# Altium footprint library ELE3PRO_2012.PcbLib: 30 footprints (part 1 of 2)
Each footprint in its own frame and in the unit in brackets; x right, y up, seen from the top. Pads: shape width x height; smd on the part's side, far side on the other; paste and mask are expansions set on the pad; w line width, h text height; cw(c..) or ccw(c..) is an arc to the next point about the centre after c.
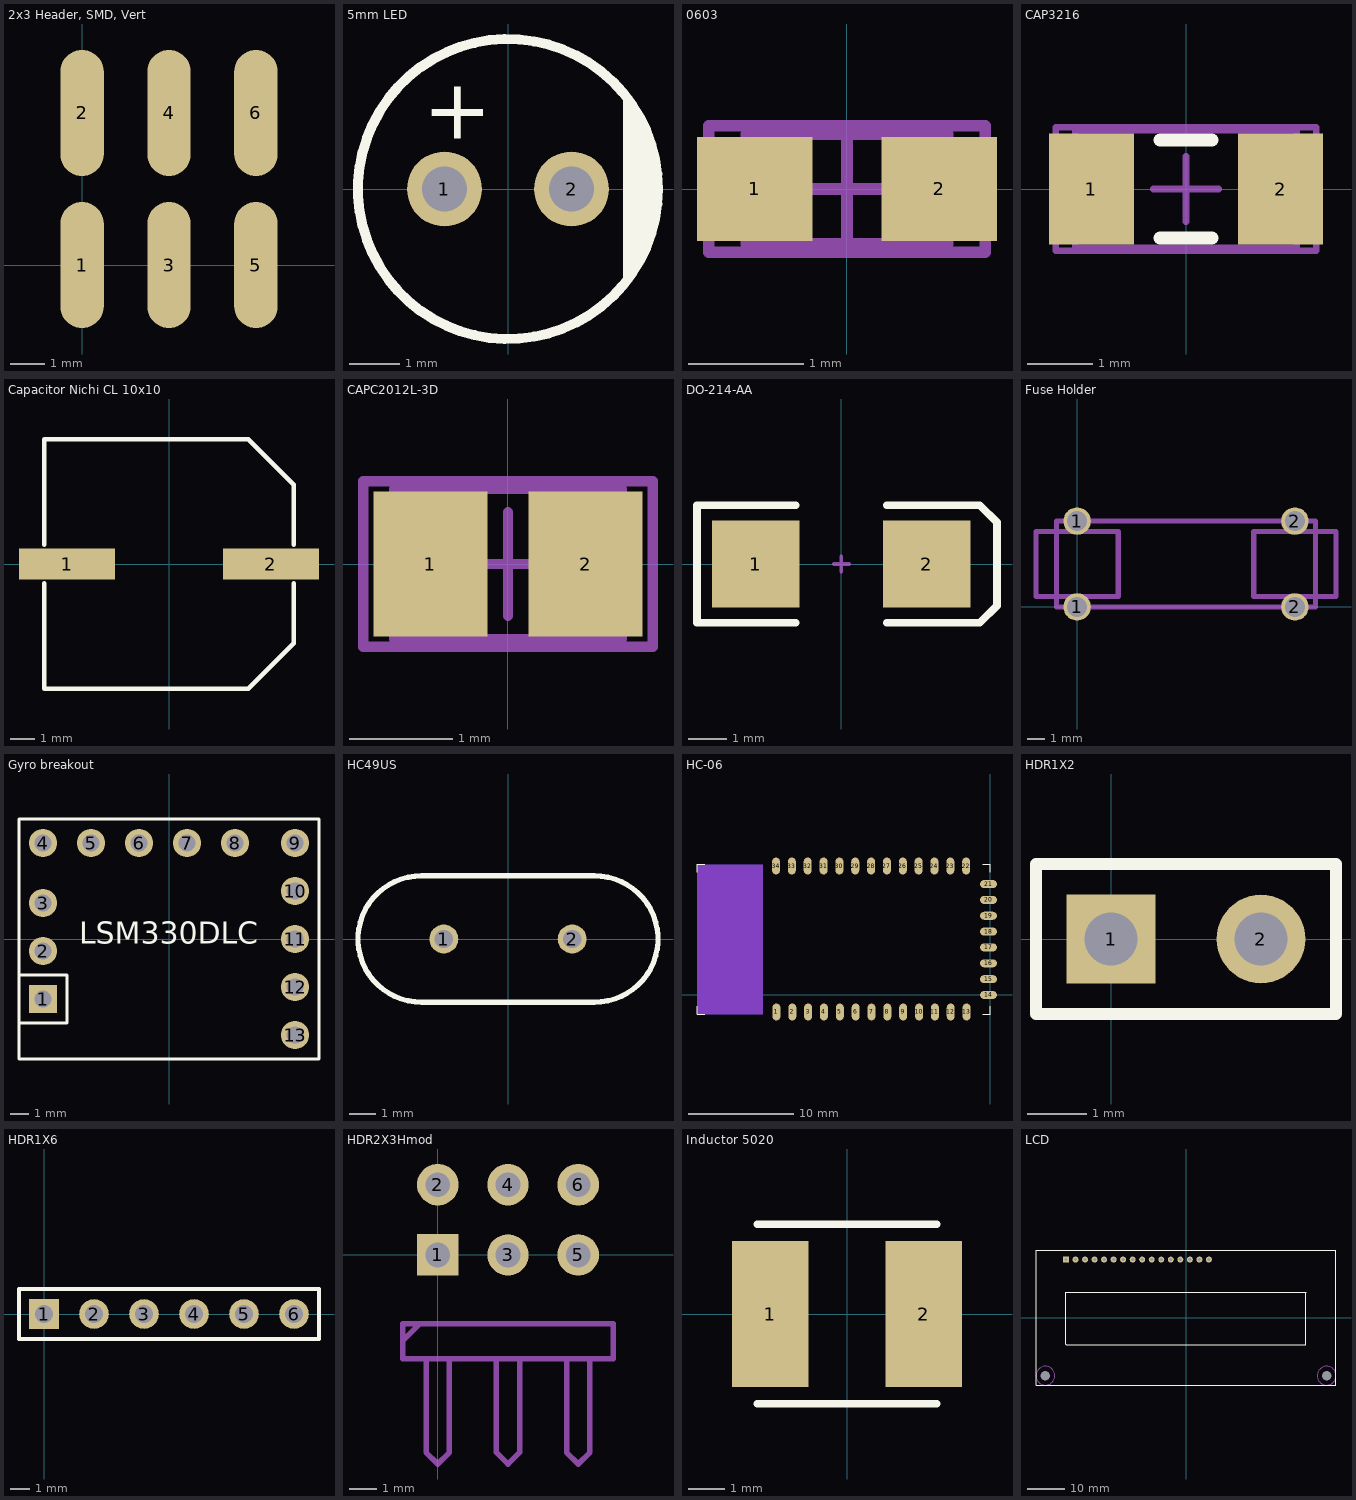
[diagram p0: the footprints below, top view; thin cyan lines are the x and y axes]

## 2x3 Header, SMD, Vert [mm]
pads (6):
  oval 1.27x3.68 smd mask+0.06: 1(0,0) 2(0,4.44) 3(2.54,0) 4(2.54,4.44) 5(5.08,0) 6(5.08,4.44)

## 5mm LED [mm]
pads (2):
  round 1.5 hole 0.9: 1(-1.27,0) 2(1.27,0)
Top Overlay:
  circle w0.2: c0,0 r3
  region: 2.4,1.8 2.4,-1.8 2.7,-1.2 2.9,-0.5 3,0.4 2.7,1.1
  lines w0.2: 2.4,-1.8 2.4,1.8
  text "+" at -1.7,1 h1.2

## 0603 [mm]
pads (2):
  rect 1x0.9 smd: 1(-0.8,0) 2(0.8,0)
Mechanical 13:
  lines w0.1: -0.875,-0.475 -0.875,0.475 0.875,0.475 0.875,-0.475 -0.875,-0.475
Mechanical 15:
  lines w0.1: -0.475,0 0.475,0 ; 0,-0.475 0,0.475 ; -1.2,-0.55 -1.2,0.55 1.2,0.55 1.2,-0.55 -1.2,-0.55
3D body: height 1.3, standoff 0, extent -0.875,-0.475 0.875,0.475

## CAP3216 [mm] "Chip Capacitor, Body 3.2x1.6mm, IPC High Density"
height 1.3
pads (2):
  rect 1.3x1.7 smd: 1(-1.45,0) 2(1.45,0)
Top Overlay:
  lines w0.2: -0.4,-0.75 0.4,-0.75 ; -0.4,0.75 0.4,0.75
Mechanical 13:
  lines w0.1: -1.7,-0.9 1.7,-0.9 1.7,0.9 -1.7,0.9 -1.7,-0.9
Mechanical 15:
  lines w0.1: -0.5,0 0.5,0 ; 0,-0.5 0,0.5 ; -2,-0.95 2,-0.95 2,0.95 -2,0.95 -2,-0.95
3D body: height 1.3, standoff 0, extent -1.7,-0.9 1.7,0.9

## Capacitor Nichi CL 10x10 [mm]
pads (2):
  rect 4x1.3 smd: 1(-4.25,0) 2(4.25,0)
Top Overlay:
  lines w0.2: -5.2,-0.8 -5.2,-5.2 3.309,-5.2 5.2,-3.309 5.2,-0.8 ; -5.2,0.8 -5.2,5.2 3.309,5.2 5.2,3.309 5.2,0.8

## CAPC2012L-3D [mm] "Chip Capacitor, Body 2.0x1.3mm, IPC High Density"
height 1.4
pads (2):
  rect 1.1x1.4 smd: 1(-0.75,0) 2(0.75,0)
Mechanical 13:
  lines w0.1: -1.1,-0.725 1.1,-0.725 1.1,0.725 -1.1,0.725 -1.1,-0.725
Mechanical 15:
  lines w0.1: -0.5,0 0.5,0 ; 0,-0.5 0,0.5 ; -1.4,-0.8 1.4,-0.8 1.4,0.8 -1.4,0.8 -1.4,-0.8
3D body: height 0.78, standoff 0, extent -1,-0.625 1,0.625

## DO-214-AA [mm] "DO-214-AA/SMB; 2 C-Bend Leads; Body 5.3 x 3.6 mm, inc. leads (LxW)"
height 2.54
pads (2):
  rect 2.3x2.3 smd: 1(-2.25,0) 2(2.25,0)
Top Overlay:
  lines w0.2: -1.2,-1.55 -3.8,-1.55 -3.8,1.55 -1.2,1.55 ; 1.2,-1.55 3.65,-1.55 4.1,-1.1 4.1,1.1 3.65,1.55 1.2,1.55
Mechanical 1:
  lines w0.1: -0.2,0 0.2,0 ; 0,-0.2 0,0.2
3D body: height 2.3, standoff 0, extent -2.7,-1.8 2.7,1.8

## Fuse Holder [mm]
pads (4):
  round 1.6 hole 1.17 mask+0.06: 1(0,0) 1(0,5) 2(12.7,0) 2(12.7,5)
Mechanical 1:
  lines w0.3: -2.4,0.6 -2.4,4.4 2.4,4.4 2.4,0.6 -2.4,0.6 ; 10.3,0.6 15.1,0.6 15.1,4.4 10.3,4.4 10.3,0.6
  text "Holder" at 3.3,0.9 h1.2
Mechanical 2:
  lines w0.3: -1.2,0 -1.2,5 13.9,5 13.9,0 -1.2,0
  text "Fuse" at 4.1,2.8 h1.2
3D body: height 7.4, standoff -2.95, extent 10.325,0 15.125,5.1
3D body: height 7.4, standoff -2.95, extent -2.275,0 2.525,5.1

## Gyro breakout [mm]
pads (13):
  rect 1.5x1.5 hole 0.9 mask+0.06: 1(-6.667,-3.175)
  round 1.5 hole 0.9 mask+0.06: 2(-6.667,-0.635) 3(-6.667,1.905) 4(-6.667,5.08) 5(-4.127,5.08) 6(-1.587,5.08) 7(0.953,5.08) 8(3.492,5.08) 9(6.667,5.08) 10(6.667,2.54) 11(6.667,0) 12(6.667,-2.54) 13(6.667,-5.08)
Top Overlay:
  lines w0.15: -7.938,-4.445 -5.397,-4.445 -5.397,-1.905 -7.938,-1.905 ; -7.938,-6.35 -7.938,6.35 7.938,6.35 7.938,-6.35 -7.938,-6.35
  text "LSM330DLC" at -4.763,-0.635 h2

## HC49US [mm]
pads (2):
  round 1.1 hole 0.7 mask+0.06: 1(-2.44,0) 2(2.44,0)
Top Overlay:
  lines w0.2: -3.275,-2.4 cw(c-3.3,0) -3.275,2.4 3.275,2.4 cw(c3.3,0) 3.275,-2.4 -3.275,-2.4
3D body: height 3.6, standoff -3, extent -5.49,-2.245 5.49,2.246

## HC-06 [mm]
pads (34):
  oval 0.76x1.6 smd: 1(-20.23,-1.61) 2(-18.73,-1.61) 3(-17.23,-1.61) 4(-15.73,-1.61) 5(-14.23,-1.61) 6(-12.73,-1.61) 7(-11.23,-1.61) 8(-9.73,-1.61) 9(-8.23,-1.61) 10(-6.73,-1.61) 11(-5.23,-1.61) 12(-3.73,-1.61) 13(-2.23,-1.61) 22(-2.27,12.21) 23(-3.77,12.21) 24(-5.27,12.21) 25(-6.77,12.21) 26(-8.27,12.21) 27(-9.77,12.21) 28(-11.27,12.21) 29(-12.77,12.21) 30(-14.27,12.21) 31(-15.77,12.21) 32(-17.27,12.21) 33(-18.77,12.21) 34(-20.27,12.21)
  oval 1.6x0.76 smd: 14(-0.15,0) 15(-0.15,1.5) 16(-0.15,3) 17(-0.15,4.5) 18(-0.15,6) 19(-0.15,7.5) 20(-0.15,9) 21(-0.15,10.5)
Top Layer keep-out:
  rectangle: -27.75,-1.83 -21.5,12.37
Bottom Layer keep-out:
  rectangle: -27.75,-1.83 -21.5,12.37
Top Overlay:
  lines w0.1: -27.75,-1.08 -27.75,-1.83 -27,-1.83 ; -27.75,11.62 -27.75,12.37 -27,12.37 ; -0.72,-1.83 0.03,-1.83 0.03,-1.08 ; -0.72,12.37 0.03,12.37 0.03,11.62

## HDR1X2 [mm] "Connector; Header; 2 Position"
pads (2):
  rect 1.5x1.5 hole 0.9: 1(0,0)
  round 1.5 hole 0.9: 2(2.54,0)
Top Overlay:
  lines w0.2: -1.27,-1.27 -1.27,1.27 3.81,1.27 3.81,-1.27 -1.27,-1.27

## HDR1X6 [mm] "Connector; Header; 6 Position"
pads (6):
  rect 1.5x1.5 hole 0.9: 1(0,0)
  round 1.5 hole 0.9: 2(2.54,0) 3(5.08,0) 4(7.62,0) 5(10.16,0) 6(12.7,0)
Top Overlay:
  lines w0.2: -1.27,-1.27 13.97,-1.27 13.97,1.27 -1.27,1.27 -1.27,-1.27

## HDR2X3Hmod [mm] "Connector; Header; 3x2 Position; Right Angle"
pads (6):
  rect 1.5x1.5 hole 0.9: 1(0,0)
  round 1.5 hole 0.9: 2(0,2.54) 3(2.54,0) 4(2.54,2.54) 5(5.08,0) 6(5.08,2.54)
Mechanical 1:
  lines w0.2: -1.27,-3.115 -0.635,-2.48 ; -0.423,-3.75 -0.423,-7.137 0,-7.56 0.423,-7.137 0.423,-3.75 ; 2.117,-3.75 2.117,-7.137 2.54,-7.56 2.963,-7.137 2.963,-3.75 ; 4.657,-3.75 4.657,-7.137 5.08,-7.56 5.503,-7.137 5.503,-3.75 ; -1.27,-3.75 6.35,-3.75 6.35,-2.48 -1.27,-2.48 -1.27,-3.75

## Inductor 5020 [mm]
pads (2):
  rect 2.1x4 smd: 1(-2.1,0) 2(2.1,0)
Top Overlay:
  lines w0.2: -2.45,-2.45 2.45,-2.45 ; -2.45,2.45 2.45,2.45

## LCD [mm]
height 10
pads (18):
  rect 1.6x1.6 hole 0.9: 1(-32,15.46)
  round 1.6 hole 0.9: 2(-29.459,15.46) 3(-26.919,15.46) 4(-24.379,15.46) 5(-21.839,15.46) 6(-19.299,15.46) 7(-16.759,15.46) 8(-14.219,15.46) 9(-11.679,15.46) 10(-9.139,15.46) 11(-6.599,15.46) 12(-4.059,15.46) 13(-1.519,15.46) 14(1.021,15.46) 15(3.561,15.46) 16(6.101,15.46)
  round 0 hole 2.6 unplated: ""(-37.5,-15.5) ""(37.5,-15.5)
Top Overlay:
  lines w0.254: -40,-18 40,-18 40,18 -40,18 -40,-18 ; -32.075,-7.095 -31.974,-7.197 31.984,-7.197 31.984,6.595 31.882,6.697 -32.075,6.697 -32.075,-7.095
Mechanical 1:
  circle w0.2: c37.5,-15.5 r2.5
  circle w0.2: c-37.5,-15.5 r2.5